# Altium footprint library CAP-0201.PcbLib: 1 footprints
Each footprint in its own frame and in the unit in brackets; x right, y up, seen from the top. Pads: shape width x height; smd on the part's side, far side on the other; paste and mask are expansions set on the pad; w line width, h text height; cw(c..) or ccw(c..) is an arc to the next point about the centre after c.
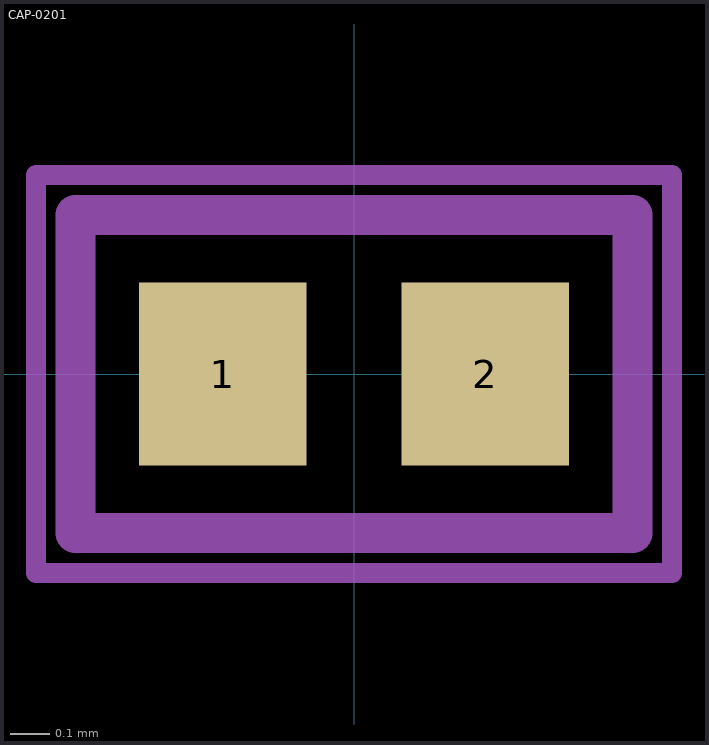
[diagram p0: the footprint, top view; thin cyan lines are the x and y axes]

## CAP-0201 [mm] "Standard 0201 capacitor"
height 0.33
pads (2):
  rect 0.42x0.46 smd: 1(-0.33,0) 2(0.33,0)
Top Assembly:
  lines w0.1: -0.7,-0.4 -0.7,0.4 0.7,0.4 0.7,-0.4 -0.7,-0.4
Top Courtyard:
  lines w0.05: -0.8,-0.5 0.8,-0.5 0.8,0.5 -0.8,0.5 -0.8,-0.5
Top Designator:
  text ".Designator" at -1.599,-0.107 h0.32
3D body "CAP 0201.STEP": height 0.3, standoff 0, extent -0.3,-0.15 0.3,0.15